# Altium schematic symbol library generic.SchLib: 3 symbols
Pins are listed as number, name and electrical type; pins without a type are passive.

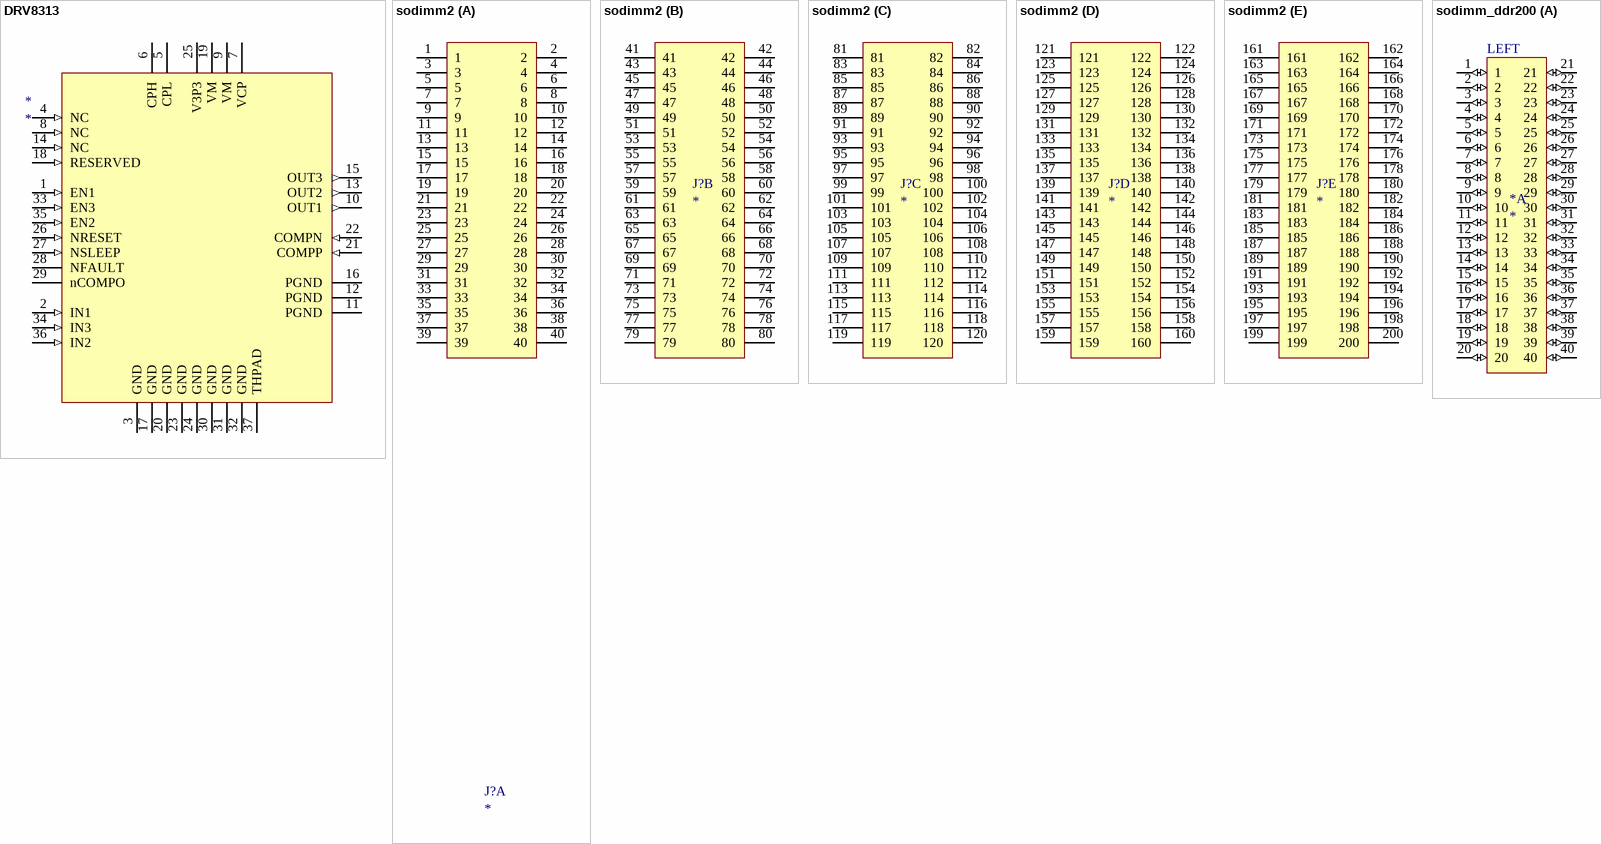
[diagram p0: symbols DRV8313 to sodimm_ddr200]

## DRV8313
designator *
footprint QFN50P600X600X100_HS-37M (QFN, 36-Leads, Body 6.00x6.00mm, Pitch 0.50mm, Thermal Pad 4.40x4.40mm, IPC Low Density)
pins: 1 EN1 (in), 2 IN1 (in), 3 GND (power), 4 NC (in), 5 CPL (power), 6 CPH (power), 7 VCP (power), 8 NC (in), 9 VM (power), 10 OUT1 (out), 11 PGND (power), 12 PGND (power), 13 OUT2 (out), 14 NC (in), 15 OUT3 (out), 16 PGND (power), 17 GND (power), 18 RESERVED (in), 19 VM (power), 20 GND (power), 21 COMPP (in), 22 COMPN (in), 23 GND (power), 24 GND (power), 25 V3P3 (power), 26 NRESET (in), 27 NSLEEP (in), 28 NFAULT (oc), 29 nCOMPO (oc), 30 GND (power), 31 GND (power), 32 GND (power), 33 EN3 (in), 34 IN3 (in), 35 EN2 (in), 36 IN2 (in), 37 THPAD (power)

## sodimm2
designator J?
footprint SODIMM-DDR200
part A pins: 1 (power), 2 (power), 3 (power), 4 (power), 5 (power), 6 (power), 7 (power), 8 (power), 9 (power), 10 (power), 11 (power), 12 (power), 13 (power), 14 (power), 15 (power), 16 (power), 17 (power), 18 (power), 19 (power), 20 (power), 21 (power), 22 (power), 23 (power), 24 (power), 25 (power), 26 (power), 27 (power), 28 (power), 29 (power), 30 (power), 31 (power), 32 (power), 33 (power), 34 (power), 35 (power), 36 (power), 37 (power), 38 (power), 39 (power), 40 (power)
part B pins: 41 (power), 42 (power), 43 (power), 44 (power), 45 (power), 46 (power), 47 (power), 48 (power), 49 (power), 50 (power), 51 (power), 52 (power), 53 (power), 54 (power), 55 (power), 56 (power), 57 (power), 58 (power), 59 (power), 60 (power), 61 (power), 62 (power), 63 (power), 64 (power), 65 (power), 66 (power), 67 (power), 68 (power), 69 (power), 70 (power), 71 (power), 72 (power), 73 (power), 74 (power), 75 (power), 76 (power), 77 (power), 78 (power), 79 (power), 80 (power)
part C pins: 81 (power), 82 (power), 83 (power), 84 (power), 85 (power), 86 (power), 87 (power), 88 (power), 89 (power), 90 (power), 91 (power), 92 (power), 93 (power), 94 (power), 95 (power), 96 (power), 97 (power), 98 (power), 99 (power), 100 (power), 101 (power), 102 (power), 103 (power), 104 (power), 105 (power), 106 (power), 107 (power), 108 (power), 109 (power), 110 (power), 111 (power), 112 (power), 113 (power), 114 (power), 115 (power), 116 (power), 117 (power), 118 (power), 119 (power), 120 (power)
part D pins: 121 (power), 122 (power), 123 (power), 124 (power), 125 (power), 126 (power), 127 (power), 128 (power), 129 (power), 130 (power), 131 (power), 132 (power), 133 (power), 134 (power), 135 (power), 136 (power), 137 (power), 138 (power), 139 (power), 140 (power), 141 (power), 142 (power), 143 (power), 144 (power), 145 (power), 146 (power), 147 (power), 148 (power), 149 (power), 150 (power), 151 (power), 152 (power), 153 (power), 154 (power), 155 (power), 156 (power), 157 (power), 158 (power), 159 (power), 160 (power)
part E pins: 161 (power), 162 (power), 163 (power), 164 (power), 165 (power), 166 (power), 167 (power), 168 (power), 169 (power), 170 (power), 171 (power), 172 (power), 173 (power), 174 (power), 175 (power), 176 (power), 177 (power), 178 (power), 179 (power), 180 (power), 181 (power), 182 (power), 183 (power), 184 (power), 185 (power), 186 (power), 187 (power), 188 (power), 189 (power), 190 (power), 191 (power), 192 (power), 193 (power), 194 (power), 195 (power), 196 (power), 197 (power), 198 (power), 199 (power), 200 (power)

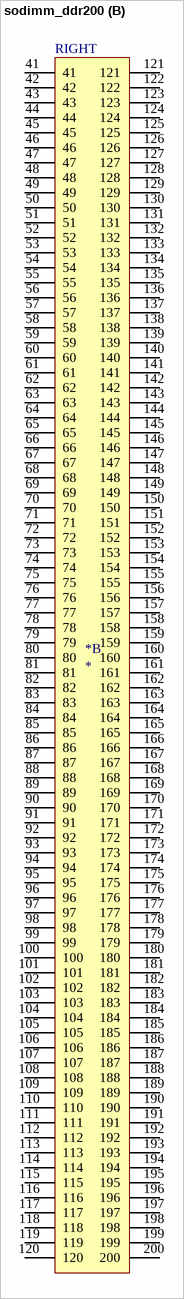
[diagram p1: symbol sodimm_ddr200]

## sodimm_ddr200
designator *
footprint SODIMM-DDR200
part A pins: 1 (io), 2 (io), 3 (io), 4 (io), 5 (io), 6 (io), 7 (io), 8 (io), 9 (io), 10 (io), 11 (io), 12 (io), 13 (io), 14 (io), 15 (io), 16 (io), 17 (io), 18 (io), 19 (io), 20 (io), 21 (io), 22 (io), 23 (io), 24 (io), 25 (io), 26 (io), 27 (io), 28 (io), 29 (io), 30 (io), 31 (io), 32 (io), 33 (io), 34 (io), 35 (io), 36 (io), 37 (io), 38 (io), 39 (io), 40 (io)
part B pins: 41 (power), 42 (power), 43 (power), 44 (power), 45 (power), 46 (power), 47 (power), 48 (power), 49 (power), 50 (power), 51 (power), 52 (power), 53 (power), 54 (power), 55 (power), 56 (power), 57 (power), 58 (power), 59 (power), 60 (power), 61 (power), 62 (power), 63 (power), 64 (power), 65 (power), 66 (power), 67 (power), 68 (power), 69 (power), 70 (power), 71 (power), 72 (power), 73 (power), 74 (power), 75 (power), 76 (power), 77 (power), 78 (power), 79 (power), 80 (power), 81 (power), 82 (power), 83 (power), 84 (power), 85 (power), 86 (power), 87 (power), 88 (power), 89 (power), 90 (power), 91 (power), 92 (power), 93 (power), 94 (power), 95 (power), 96 (power), 97 (power), 98 (power), 99 (power), 100 (power), 101 (power), 102 (power), 103 (power), 104 (power), 105 (power), 106 (power), 107 (power), 108 (power), 109 (power), 110 (power), 111 (power), 112 (power), 113 (power), 114 (power), 115 (power), 116 (power), 117 (power), 118 (power), 119 (power), 120 (power), 121 (power), 122 (power), 123 (power), 124 (power), 125 (power), 126 (power), 127 (power), 128 (power), 129 (power), 130 (power), 131 (power), 132 (power), 133 (power), 134 (power), 135 (power), 136 (power), 137 (power), 138 (power), 139 (power), 140 (power), 141 (power), 142 (power), 143 (power), 144 (power), 145 (power), 146 (power), 147 (power), 148 (power), 149 (power), 150 (power), 151 (power), 152 (power), 153 (power), 154 (power), 155 (power), 156 (power), 157 (power), 158 (power), 159 (power), 160 (power), 161 (power), 162 (power), 163 (power), 164 (power), 165 (power), 166 (power), 167 (power), 168 (power), 169 (power), 170 (power), 171 (power), 172 (power), 173 (power), 174 (power), 175 (power), 176 (power), 177 (power), 178 (power), 179 (power), 180 (power), 181 (power), 182 (power), 183 (power), 184 (power), 185 (power), 186 (power), 187 (power), 188 (power), 189 (power), 190 (power), 191 (power), 192 (power), 193 (power), 194 (power), 195 (power), 196 (power), 197 (power), 198 (power), 199 (power), 200 (power)
part A text: LEFT
part B text: RIGHT